# EAGLE library part CAM-MODULE-OV7670 (library stutz-eagle)
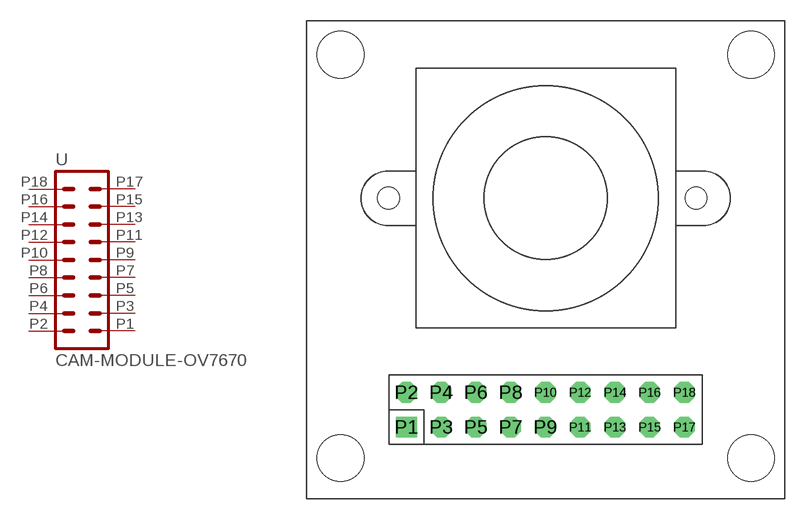
[diagram p16: symbol with the pads of CAM-MODULE-OV7670; footprint CAM-MODULE-OV7670]

Designator prefix -

## CAM-MODULE-OV7670  [CAM-MODULE-OV7670]
P1  1  pas
P2  2  pas
P3  3  pas
P4  4  pas
P5  5  pas
P6  6  pas
P7  7  pas
P8  8  pas
P9  9  pas
P10  10  pas
P11  11  pas
P12  12  pas
P13  13  pas
P14  14  pas
P15  15  pas
P16  16  pas
P17  17  pas
P18  18  pas

## Footprint CAM-MODULE-OV7670 (pad centres in mm)
drill 1 square: P1 -10.18,-17.24
drill 1 octagon: P2 -10.18,-14.7; P3 -7.64,-17.24; P4 -7.64,-14.7; P5 -5.1,-17.24; P6 -5.1,-14.7; P7 -2.56,-17.24; P8 -2.56,-14.7; P9 -0.02,-17.24; P10 -0.02,-14.7; P11 2.52,-17.24; P12 2.52,-14.7; P13 5.06,-17.24; P14 5.06,-14.7; P15 7.6,-17.24; P16 7.6,-14.7; P17 10.14,-17.24; P18 10.14,-14.7
hole 3.4 at -15,10
hole 1.6 at -11.5,-0.5
hole 1.6 at 11,-0.5
hole 3.4 at 15,10
hole 3.4 at 15,-19.5
hole 3.4 at -15,-19.5